# Altium schematic symbol library lan8670d0t-e_lmx.SchLib: 1 symbol
Pins are listed as number, name and electrical type; pins without a type are passive.

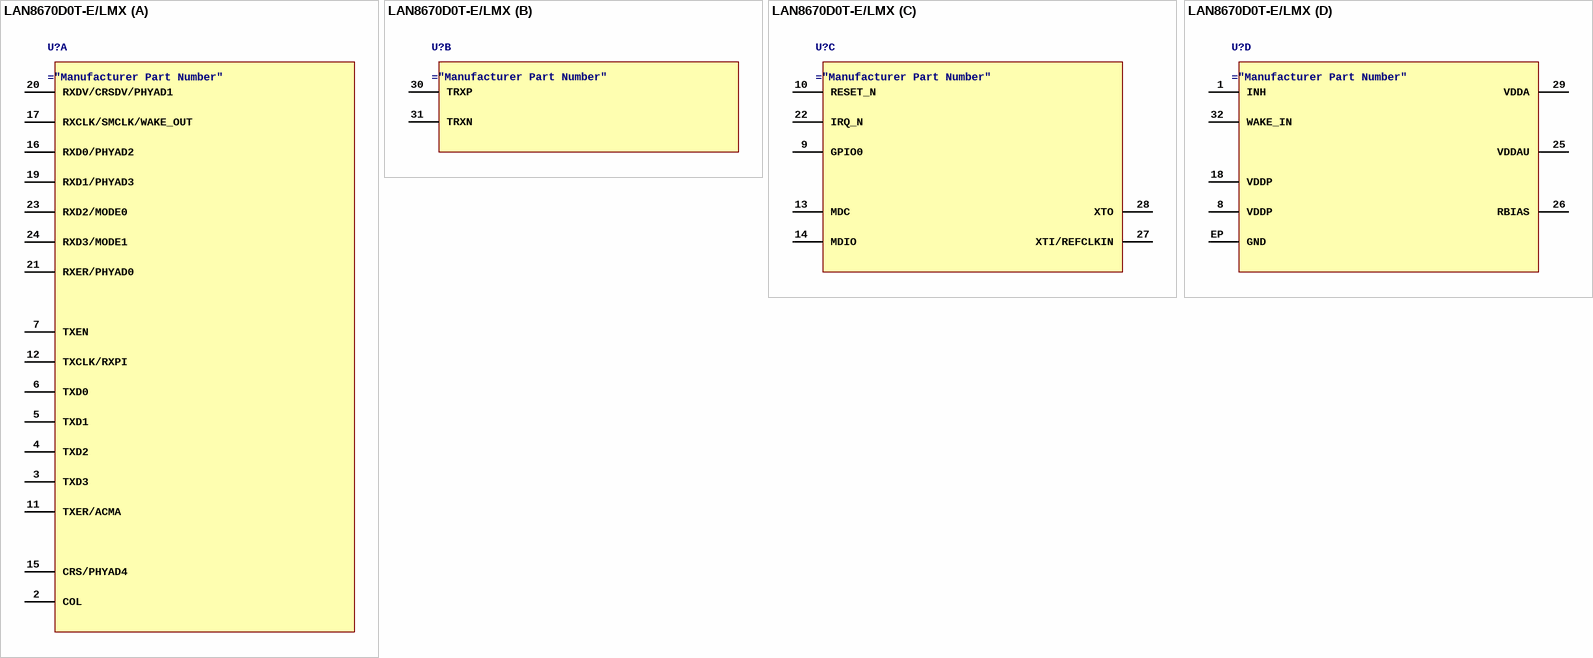
[diagram p0: symbol LAN8670D0T-E/LMX]

## LAN8670D0T-E/LMX
designator U?
10BASE-T1S PHY WITH MII/RMII "1/1 Transceiver Full, Half Ethernet 32-VQFN (5x5)"
part A pins: 2 COL, 3 TXD3, 4 TXD2, 5 TXD1, 6 TXD0, 7 TXEN, 11 TXER/ACMA, 12 TXCLK/RXPI, 15 CRS/PHYAD4, 16 RXD0/PHYAD2, 17 RXCLK/SMCLK/WAKE_OUT, 19 RXD1/PHYAD3, 20 RXDV/CRSDV/PHYAD1, 21 RXER/PHYAD0, 23 RXD2/MODE0, 24 RXD3/MODE1
part B pins: 30 TRXP, 31 TRXN
part C pins: 9 GPIO0, 10 RESET_N, 13 MDC, 14 MDIO, 22 IRQ_N, 27 XTI/REFCLKIN, 28 XTO
part D pins: 1 INH, 8 VDDP, 18 VDDP, 25 VDDAU, 26 RBIAS, 29 VDDA, 32 WAKE_IN, EP GND